# EAGLE library part TERMINAL_TAC_SWITCH (library StudioLab_Grove)
Momentary Switch Button commonly used for reset or general input. Spark Fun Electronics SKU : COM-00097
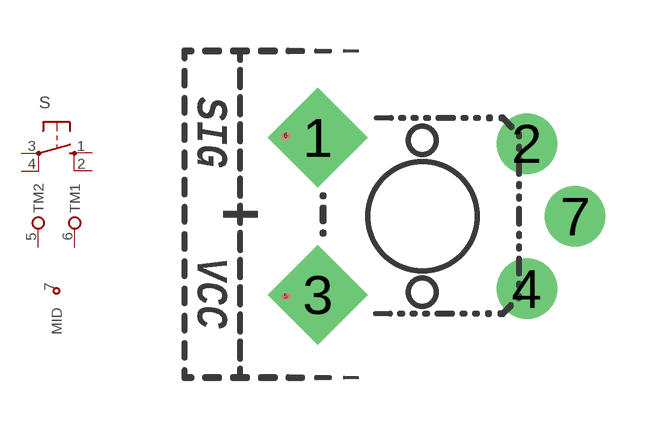
[diagram p0: symbol with the pads of TERMINAL_TACTILE-PTH; footprint TERMINAL_TACTILE-PTH]

Designator prefix S

## TERMINAL_TAC_SWITCH  [TERMINAL_TACTILE-PTH]
1  3  pas
2  4  pas
3  1  pas
4  2  pas
5  TM2
6  TM1
7  MID

## Footprint TERMINAL_TACTILE-PTH (pad centres in mm)
OMRON SWITCH
drill 1.4 pad 2.2 square: 1 -3.251,2.448; 3 -3.251,-2.448
drill 1.016 pad 1.88: 2 3.251,2.261; 4 3.251,-2.261; 7 4.75,0
smd 0.305 x 0.152: 5 -4.25,-2.5; 6 -4.25,2.5